# Altium footprint library lesson.PcbLib: 1 footprints
Each footprint in its own frame and in the unit in brackets; x right, y up, seen from the top. Pads: shape width x height; smd on the part's side, far side on the other; paste and mask are expansions set on the pad; w line width, h text height; cw(c..) or ccw(c..) is an arc to the next point about the centre after c.
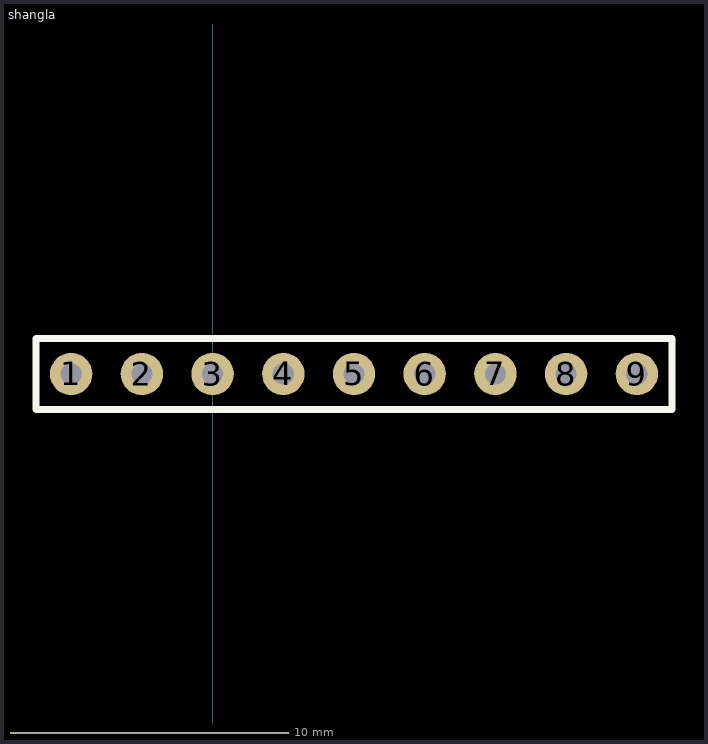
[diagram p0: the footprint, top view; thin cyan lines are the x and y axes]

## shangla [mil]
height 100
pads (9):
  round 60 hole 30: 1(-200,19200) 2(-100,19200) 3(0,19200) 4(100,19200) 5(200,19200) 6(300,19200) 7(400,19200) 8(500,19200) 9(600,19200)
Top Overlay:
  lines w10: -250,19150 650,19150 650,19250 -200,19250 -250,19250 -250,19150